# Altium footprint library DS_Lib.PcbLib: 69 footprints (part 3 of 5)
Each footprint in its own frame and in the unit in brackets; x right, y up, seen from the top. Pads: shape width x height; smd on the part's side, far side on the other; paste and mask are expansions set on the pad; w line width, h text height; cw(c..) or ccw(c..) is an arc to the next point about the centre after c.
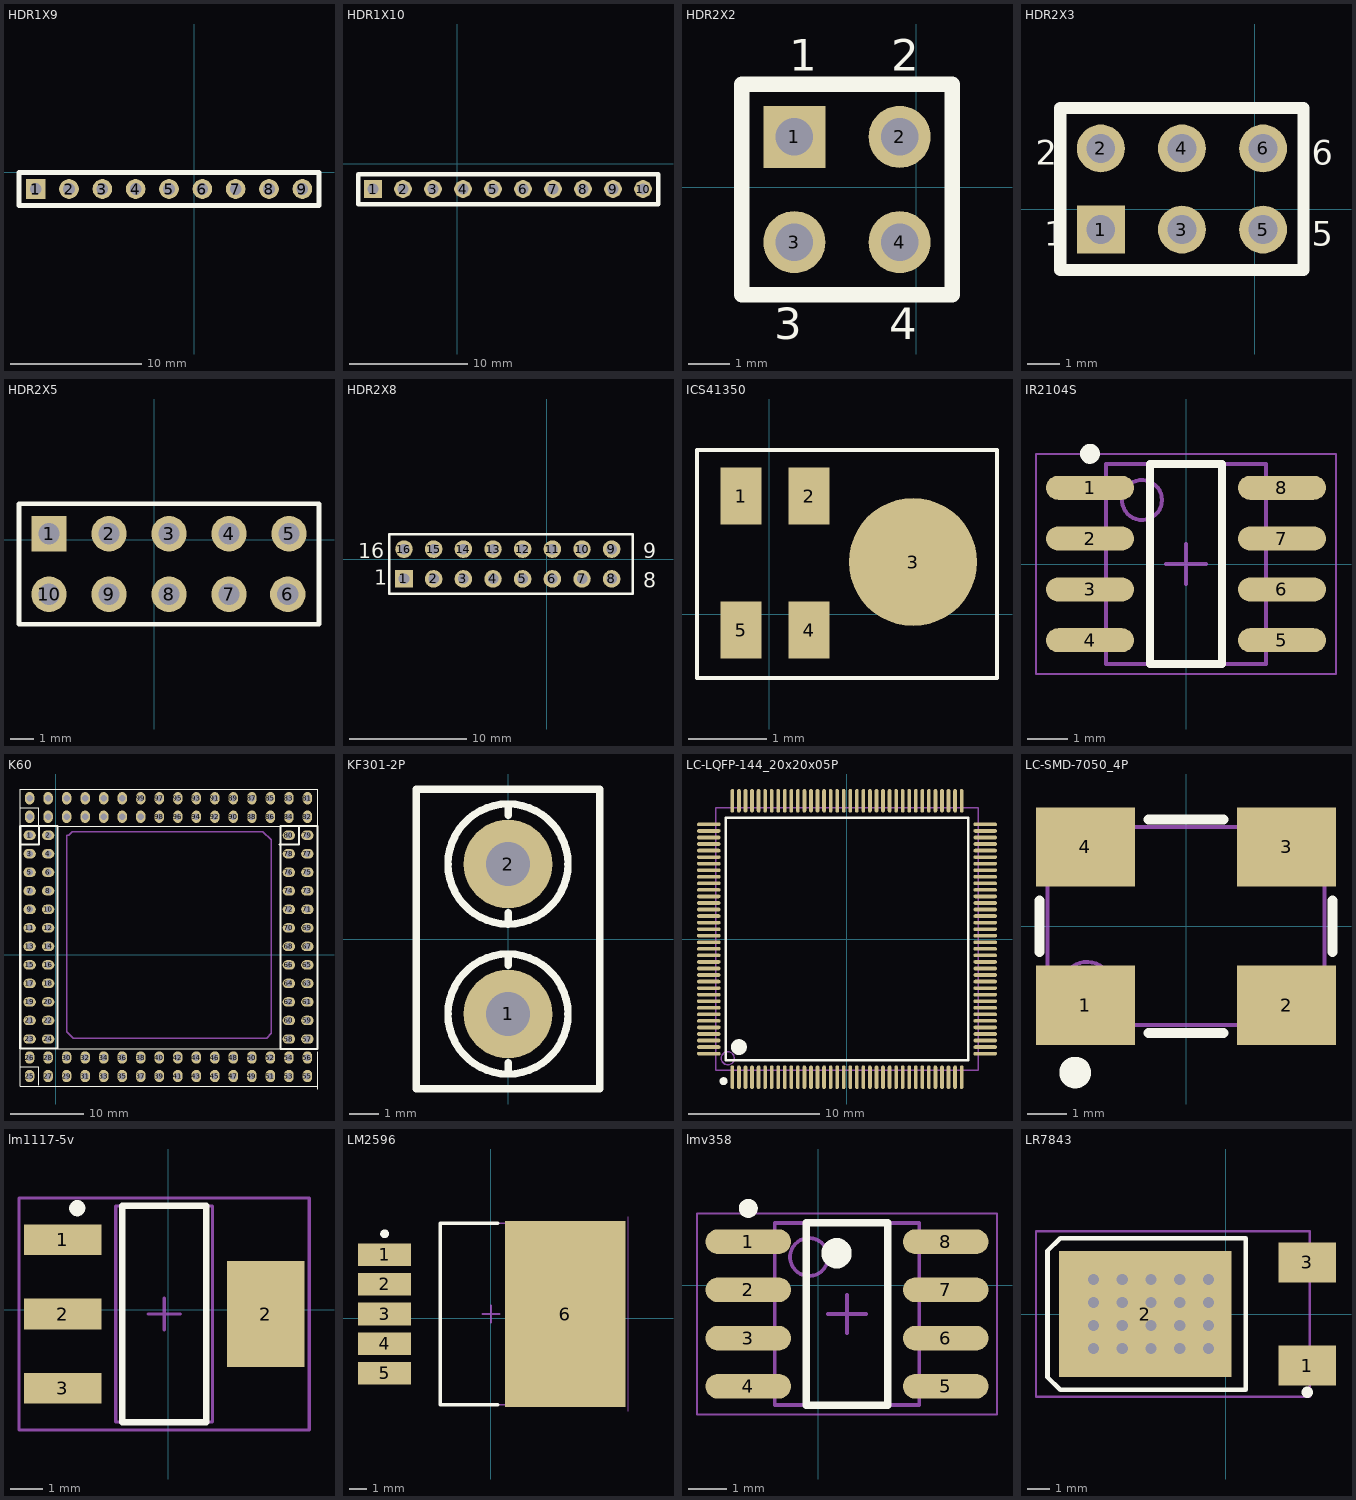
[diagram p2: the footprints below, top view; thin cyan lines are the x and y axes]

## HDR1X9 [mm]
pads (9):
  rect 1.5x1.5 hole 0.9: 1(-12.065,-1.27)
  round 1.5 hole 0.9: 2(-9.525,-1.27) 3(-6.985,-1.27) 4(-4.445,-1.27) 5(-1.905,-1.27) 6(0.635,-1.27) 7(3.175,-1.27) 8(5.715,-1.27) 9(8.255,-1.27)
Top Overlay:
  lines w0.381: -13.335,-2.54 9.525,-2.54 9.525,0 -13.335,0 -13.335,-2.54

## HDR1X10 [mm]
pads (10):
  rect 1.5x1.5 hole 0.9: 1(-7.112,-2.159)
  round 1.5 hole 0.9: 2(-4.572,-2.159) 3(-2.032,-2.159) 4(0.508,-2.159) 5(3.048,-2.159) 6(5.588,-2.159) 7(8.128,-2.159) 8(10.668,-2.159) 9(13.208,-2.159) 10(15.748,-2.159)
Top Overlay:
  lines w0.381: -8.382,-3.429 17.018,-3.429 17.018,-0.889 -6.477,-0.889 -8.382,-0.889 -8.382,-3.429

## HDR2X2 [mm]
pads (4):
  rect 1.5x1.5 hole 0.9: 1(-2.946,1.219)
  round 1.5 hole 0.9: 2(-0.406,1.219) 3(-2.946,-1.321) 4(-0.406,-1.321)
Top Overlay:
  lines w0.381: -4.216,-2.591 -1.465,-2.591 0.864,-2.591 0.864,2.489 -4.216,2.489 -4.216,-2.591
  text "1" at -3.073,2.819 h0.76
  text "2" at -0.61,2.819 h0.76
  text "3" at -3.429,-3.658 h0.76
  text "4" at -0.66,-3.658 h0.76

## HDR2X3 [mm]
pads (6):
  rect 1.5x1.5 hole 0.9: 1(-4.826,-0.635)
  round 1.5 hole 0.9: 2(-4.826,1.905) 3(-2.286,-0.635) 4(-2.286,1.905) 5(0.254,-0.635) 6(0.254,1.905)
Top Overlay:
  lines w0.381: -3.344,-1.905 1.524,-1.905 ; 1.524,-1.905 -6.096,-1.905 -6.096,3.175 1.524,3.175 1.524,-1.905
  text "1" at -6.604,-1.143 h0.76
  text "2" at -6.858,1.397 h0.76
  text "5" at 1.778,-1.143 h0.76
  text "6" at 1.778,1.397 h0.76

## HDR2X5 [mm]
pads (10):
  rect 1.5x1.5 hole 0.9: 1(-4.445,0.254)
  round 1.5 hole 0.9: 2(-1.905,0.254) 3(0.635,0.254) 4(3.175,0.254) 5(5.715,0.254) 6(5.664,-2.311) 7(3.175,-2.311) 8(0.635,-2.311) 9(-1.905,-2.311) 10(-4.445,-2.311)
Top Overlay:
  lines w0.2: -5.715,-3.581 6.985,-3.581 6.985,1.524 -5.715,1.524 -5.715,-3.581

## HDR2X8 [mm]
pads (16):
  rect 1.5x1.5 hole 0.9: 1(-12.217,-1.676)
  round 1.5 hole 0.9: 2(-9.677,-1.676) 3(-7.137,-1.676) 4(-4.597,-1.676) 5(-2.057,-1.676) 6(0.483,-1.676) 7(3.023,-1.676) 8(5.563,-1.676) 9(5.563,0.864) 10(3.023,0.864) 11(0.483,0.864) 12(-2.057,0.864) 13(-4.597,0.864) 14(-7.137,0.864) 15(-9.677,0.864) 16(-12.217,0.864)
Top Overlay:
  lines w0.2: -13.487,-2.946 -11.582,-2.946 7.366,-2.946 7.366,2.134 -11.582,2.134 -13.487,2.134 -13.487,-2.946
  text "9" at 8.255,0.102 h1.27
  text "8" at 8.255,-2.438 h1.27
  text "1" at -14.757,-2.184 h1.27
  text "16" at -16.154,0.102 h1.27

## ICS41350 [mm]
pads (5):
  rect 0.52x0.725 smd: 1(-0.356,1.499) 2(0.508,1.499) 4(0.508,-0.203) 5(-0.356,-0.203)
  round 1.625 smd: 3(1.829,0.66)
Top Overlay:
  lines w0.05: -0.914,-0.813 2.896,-0.813 2.896,2.083 -0.737,2.083 -0.914,2.083 -0.914,-0.813

## IR2104S [mm]
height 1.55
pads (8):
  oval 2.2x0.6 smd: 1(-2.4,1.905) 2(-2.4,0.635) 3(-2.4,-0.635) 4(-2.4,-1.905) 5(2.4,-1.905) 6(2.4,-0.635) 7(2.4,0.635) 8(2.4,1.905)
Top Overlay:
  circle w0.25: c-2.4,2.755 r0.125
  lines w0.2: -0.9,-2.5 0.9,-2.5 0.9,2.5 -0.9,2.5 -0.9,-2.5
Mechanical 13:
  circle w0.1: c-1.1,1.6 r0.5
  lines w0.1: -2,-2.5 2,-2.5 2,2.5 -2,2.5 -2,-2.5
Mechanical 15:
  lines w0.05: -3.75,-2.75 3.75,-2.75 3.75,2.75 -3.75,2.75 -3.75,-2.75
  lines w0.1: -0.5,0 0.5,0 ; 0,-0.5 0,0.5
3D body: height 1.55, standoff 0.22, extent -2,-2.5 2,2.5

## K60 [mm]
pads (112):
  oval 1.7x1.3 / inner round 1.524 / far side round 1.524 hole 0.9: 1(-3.556,16.383) 2(-1.016,16.383) 3(-3.556,13.843) 4(-1.016,13.843) 5(-3.556,11.303) 6(-1.016,11.303) 7(-3.556,8.763) 8(-1.016,8.763) 9(-3.556,6.223) 10(-1.016,6.223) 11(-3.556,3.683) 12(-1.016,3.683) 13(-3.556,1.143) 14(-1.016,1.143) 15(-3.556,-1.397) 16(-1.016,-1.397) 17(-3.556,-3.937) 18(-1.016,-3.937) 19(-3.556,-6.477) 20(-1.016,-6.477) 21(-3.556,-9.017) 22(-1.016,-9.017) 23(-3.556,-11.557) 24(-1.016,-11.557) 57(34.544,-11.557) 58(32.004,-11.557) 59(34.544,-9.017) 60(32.004,-9.017) 61(34.544,-6.477) 62(32.004,-6.477) 63(34.544,-3.937) 64(32.004,-3.937) 65(34.544,-1.397) 66(32.004,-1.397) 67(34.544,1.143) 68(32.004,1.143) 69(34.544,3.683) 70(32.004,3.683) 71(34.544,6.223) 72(32.004,6.223) 73(34.544,8.763) 74(32.004,8.763) 75(34.544,11.303) 76(32.004,11.303) 77(34.544,13.843) 78(32.004,13.843) 79(34.544,16.383) 80(32.004,16.383)
  oval 1.3x1.7 / inner round 1.524 / far side round 1.524 hole 0.9: 25(-3.556,-16.637) 26(-3.556,-14.097) 27(-1.016,-16.637) 28(-1.016,-14.097) 29(1.524,-16.637) 30(1.524,-14.097) 31(4.064,-16.637) 32(4.064,-14.097) 33(6.604,-16.637) 34(6.604,-14.097) 35(9.144,-16.637) 36(9.144,-14.097) 37(11.684,-16.637) 38(11.684,-14.097) 39(14.224,-16.637) 40(14.224,-14.097) 41(16.764,-16.637) 42(16.764,-14.097) 43(19.304,-16.637) 44(19.304,-14.097) 45(21.844,-16.637) 46(21.844,-14.097) 47(24.384,-16.637) 48(24.384,-14.097) 49(26.924,-16.637) 50(26.924,-14.097) 51(29.464,-16.637) 52(29.464,-14.097) 53(32.004,-16.637) 54(32.004,-14.097) 55(34.544,-16.637) 56(34.544,-14.097) 81(34.544,21.463) 82(34.544,18.923) 83(32.004,21.463) 84(32.004,18.923) 85(29.464,21.463) 86(29.464,18.923) 87(26.924,21.463) 88(26.924,18.923) 89(24.384,21.463) 90(24.384,18.923) 91(21.844,21.463) 92(21.844,18.923) 93(19.304,21.463) 94(19.304,18.923) 95(16.764,21.463) 96(16.764,18.923) 97(14.224,21.463) 98(14.224,18.923) 99(11.684,21.463) 100(11.684,18.923) 101(9.144,21.463) 102(9.144,18.923) 103(6.604,21.463) 104(6.604,18.923) 105(4.064,21.463) 106(4.064,18.923) 107(1.524,21.463) 108(1.524,18.923) 109(-1.016,21.463) 110(-1.016,18.923) 111(-3.556,21.463) 112(-3.556,18.923)
Top Overlay:
  lines w0.15: -4.868,-18.065 -4.868,-12.985 ; -4.829,-18.014 35.938,-18.014 ; -4.826,-15.367 -2.286,-15.367 -2.286,-17.907 ; -4.826,-12.923 35.941,-12.923 ; -4.826,20.193 -2.286,20.193 -2.286,17.653 ; 35.941,-13.798 35.992,-13.798 ; 35.941,-13.439 35.992,-13.439 ; 35.992,-18.415 35.992,-13.335 ; -4.826,17.653 35.941,17.653 35.992,17.653 35.992,22.733 35.941,22.733 -4.826,22.733 -4.826,17.653
  lines w0.305: -4.826,-12.858 0.254,-12.858 ; -4.826,-12.827 -4.826,17.653 0.254,17.653 0.254,-12.827 ; -4.826,15.113 -2.286,15.113 -2.286,17.653 ; 30.734,15.113 33.274,15.113 ; 30.861,-12.931 35.941,-12.931 ; 30.861,-12.827 30.861,17.653 35.941,17.653 35.941,-12.827 ; 33.401,15.113 33.401,17.653
Mechanical 15:
  lines w0.2: 1.524,16.383 1.778,16.383 ; 1.524,16.383 1.778,16.383 ; 1.524,16.383 1.524,-10.541 2.413,-11.43 28.956,-11.43 29.591,-10.795 29.591,15.748 28.448,16.891 2.286,16.891 1.778,16.383

## KF301-2P [mm]
pads (2):
  round 3 hole 1.5: 1(0,-2.54) 2(0,2.54)
Top Overlay:
  circle w0.254: c0,2.54 r2.032
  circle w0.254: c0,-2.54 r2.032
  lines w0.254: 0,-4.572 0,-4.191 ; 0,-0.889 0,-0.508 ; 0,0.508 0,0.889 ; 0,4.191 0,4.572 ; -3.1,-5.08 -3.1,5.08 3.1,5.08 3.1,-5.08 -3.1,-5.08

## LC-LQFP-144_20x20x05P [mm]
pads (144):
  oval 0.28x1.8 smd mask+0.051: 1(-8.75,-10.55) 2(-8.25,-10.55) 3(-7.75,-10.55) 4(-7.25,-10.55) 5(-6.75,-10.55) 6(-6.25,-10.55) 7(-5.75,-10.55) 8(-5.25,-10.55) 9(-4.75,-10.55) 10(-4.25,-10.55) 11(-3.75,-10.55) 12(-3.25,-10.55) 13(-2.75,-10.55) 14(-2.25,-10.55) 15(-1.75,-10.55) 16(-1.25,-10.55) 17(-0.75,-10.55) 18(-0.25,-10.55) 19(0.25,-10.55) 20(0.75,-10.55) 21(1.25,-10.55) 22(1.75,-10.55) 23(2.25,-10.55) 24(2.75,-10.55) 25(3.25,-10.55) 26(3.75,-10.55) 27(4.25,-10.55) 28(4.75,-10.55) 29(5.25,-10.55) 30(5.75,-10.55) 31(6.25,-10.55) 32(6.75,-10.55) 33(7.25,-10.55) 34(7.75,-10.55) 35(8.25,-10.55) 36(8.75,-10.55) 73(8.75,10.55) 74(8.25,10.55) 75(7.75,10.55) 76(7.25,10.55) 77(6.75,10.55) 78(6.25,10.55) 79(5.75,10.55) 80(5.25,10.55) 81(4.75,10.55) 82(4.25,10.55) 83(3.75,10.55) 84(3.25,10.55) 85(2.75,10.55) 86(2.25,10.55) 87(1.75,10.55) 88(1.25,10.55) 89(0.75,10.55) 90(0.25,10.55) 91(-0.25,10.55) 92(-0.75,10.55) 93(-1.25,10.55) 94(-1.75,10.55) 95(-2.25,10.55) 96(-2.75,10.55) 97(-3.25,10.55) 98(-3.75,10.55) 99(-4.25,10.55) 100(-4.75,10.55) 101(-5.25,10.55) 102(-5.75,10.55) 103(-6.25,10.55) 104(-6.75,10.55) 105(-7.25,10.55) 106(-7.75,10.55) 107(-8.25,10.55) 108(-8.75,10.55)
  oval 1.8x0.28 smd mask+0.051: 37(10.55,-8.75) 38(10.55,-8.25) 39(10.55,-7.75) 40(10.55,-7.25) 41(10.55,-6.75) 42(10.55,-6.25) 43(10.55,-5.75) 44(10.55,-5.25) 45(10.55,-4.75) 46(10.55,-4.25) 47(10.55,-3.75) 48(10.55,-3.25) 49(10.55,-2.75) 50(10.55,-2.25) 51(10.55,-1.75) 52(10.55,-1.25) 53(10.55,-0.75) 54(10.55,-0.25) 55(10.55,0.25) 56(10.55,0.75) 57(10.55,1.25) 58(10.55,1.75) 59(10.55,2.25) 60(10.55,2.75) 61(10.55,3.25) 62(10.55,3.75) 63(10.55,4.25) 64(10.55,4.75) 65(10.55,5.25) 66(10.55,5.75) 67(10.55,6.25) 68(10.55,6.75) 69(10.55,7.25) 70(10.55,7.75) 71(10.55,8.25) 72(10.55,8.75) 109(-10.55,8.75) 110(-10.55,8.25) 111(-10.55,7.75) 112(-10.55,7.25) 113(-10.55,6.75) 114(-10.55,6.25) 115(-10.55,5.75) 116(-10.55,5.25) 117(-10.55,4.75) 118(-10.55,4.25) 119(-10.55,3.75) 120(-10.55,3.25) 121(-10.55,2.75) 122(-10.55,2.25) 123(-10.55,1.75) 124(-10.55,1.25) 125(-10.55,0.75) 126(-10.55,0.25) 127(-10.55,-0.25) 128(-10.55,-0.75) 129(-10.55,-1.25) 130(-10.55,-1.75) 131(-10.55,-2.25) 132(-10.55,-2.75) 133(-10.55,-3.25) 134(-10.55,-3.75) 135(-10.55,-4.25) 136(-10.55,-4.75) 137(-10.55,-5.25) 138(-10.55,-5.75) 139(-10.55,-6.25) 140(-10.55,-6.75) 141(-10.55,-7.25) 142(-10.55,-7.75) 143(-10.55,-8.25) 144(-10.55,-8.75)
Top Overlay:
  circle w0.6: c-8.25,-8.25 r0.3
  circle w0.3: c-9.425,-10.85 r0.15
  lines w0.2: -9.25,-9.25 9.25,-9.25 9.25,9.25 -9.25,9.25 -9.25,-9.25
Mechanical 13:
  circle w0.1: c-9.1,-9.1 r0.5
  lines w0.1: -10,-10 10,-10 10,10 -10,10 -10,-10

## LC-SMD-7050_4P [mm]
pads (4):
  rect 2.5x2 smd: 1(-2.54,-2) 2(2.54,-2) 3(2.54,2) 4(-2.54,2)
Top Overlay:
  circle w0.4: c-2.8,-3.7 r0.2
  lines w0.254: -3.7,-0.65 -3.7,0.65 ; -0.95,-2.7 0.95,-2.7 ; -0.95,2.7 0.95,2.7 ; 3.7,-0.65 3.7,0.65
Mechanical 13:
  circle w0.1: c-2.5,-1.5 r0.6
  lines w0.1: -3.5,-2.5 -3.5,2.5 3.5,2.5 3.5,-2.5 -3.5,-2.5

## lm1117-5v [mm]
pads (4):
  rect 2.4x0.95 smd: 1(-3.277,2.173) 2(-3.277,-0.127) 3(-3.277,-2.427)
  rect 2.4x3.3 smd: 2(3.023,-0.127)
Top Overlay:
  circle w0.25: c-2.822,3.153 r0.125
  lines w0.2: -1.427,-3.477 -1.427,3.223 1.173,3.223 1.173,-3.477 -1.427,-3.477
Mechanical 13:
  lines w0.1: -1.627,-3.477 -1.627,3.223 1.373,3.223 1.373,-3.477 -1.627,-3.477
Mechanical 15:
  lines w0.1: -0.627,-0.127 0.373,-0.127 ; -0.127,-0.627 -0.127,0.373 ; -4.627,-3.727 -4.627,3.473 4.373,3.473 4.373,-3.727 -4.627,-3.727
3D body: height 1.8, standoff 0.02, extent -1.627,-3.477 1.373,3.223

## LM2596 [mm]
pads (6):
  rect 3.05x1.3 smd: 1(-6.1,3.654) 2(-6.1,1.954) 3(-6.1,0.254) 4(-6.1,-1.446) 5(-6.1,-3.146)
  rect 6.9x10.65 smd: 6(4.25,0.254)
Top Overlay:
  circle w0.25: c-6.1,4.854 r0.125
  lines w0.2: 0.4,-4.946 -2.9,-4.946 -2.9,5.454 0.4,5.454
Mechanical 13:
  lines w0.1: -2.9,-4.946 5.99,-4.946 5.99,5.454 -2.9,5.454 -2.9,-4.946
Mechanical 15:
  lines w0.05: 7.875,-5.321 7.875,5.829
  lines w0.1: -0.5,0.254 0.5,0.254 ; 0,-0.246 0,0.754

## lmv358 [mm]
pads (8):
  oval 2.25x0.65 smd: 1(-1.838,1.143) 2(-1.838,-0.127) 3(-1.838,-1.397) 4(-1.838,-2.667) 5(3.362,-2.667) 6(3.362,-1.397) 7(3.362,-0.127) 8(3.362,1.143)
Top Overlay:
  circle w0.25: c-1.838,2.018 r0.125
  circle w0.4: c0.487,0.838 r0.2
  lines w0.2: -0.313,-3.162 -0.313,1.638 1.837,1.638 1.837,-3.162 -0.313,-3.162
Mechanical 13:
  circle w0.1: c-0.238,0.738 r0.5
  lines w0.1: -1.138,-3.162 -1.138,1.638 2.662,1.638 2.662,-3.162 -1.138,-3.162
Mechanical 15:
  lines w0.05: -3.188,-3.412 -3.188,1.888 4.712,1.888 4.712,-3.412 -3.188,-3.412
  lines w0.1: 0.262,-0.762 1.262,-0.762 ; 0.762,-1.262 0.762,-0.262
3D body: height 1.62, standoff 0.18, extent -1.138,-3.162 2.662,1.638

## LR7843 [mm]
pads (3):
  rect 2.54x1.778 smd: 1(3.6,-2.28) 3(3.6,2.28)
  rect 7.6x5.55 smd: 2(-3.556,0)
via -5.842,1.524 diameter 0.8 hole 0.5
via -5.842,0.508 diameter 0.8 hole 0.5
via -5.842,-0.508 diameter 0.8 hole 0.5
via -4.572,1.524 diameter 0.8 hole 0.5
via -4.572,0.508 diameter 0.8 hole 0.5
via -4.572,-0.508 diameter 0.8 hole 0.5
via -4.572,-1.524 diameter 0.8 hole 0.5
via -3.302,1.524 diameter 0.8 hole 0.5
via -3.302,0.508 diameter 0.8 hole 0.5
via -3.302,-0.508 diameter 0.8 hole 0.5
via -2.032,1.524 diameter 0.8 hole 0.5
via -2.032,0.508 diameter 0.8 hole 0.5
via -2.032,-1.524 diameter 0.8 hole 0.5
via -2.032,-0.508 diameter 0.8 hole 0.5
via -3.302,-1.524 diameter 0.8 hole 0.5
via -5.842,-1.524 diameter 0.8 hole 0.5
via -0.762,0.508 diameter 0.8 hole 0.5
via -0.762,1.524 diameter 0.8 hole 0.5
via -0.762,-0.508 diameter 0.8 hole 0.5
via -0.762,-1.524 diameter 0.8 hole 0.5
Top Overlay:
  circle w0.25: c3.6,-3.455 r0.125
  lines w0.2: -7.874,-2.794 -7.318,-3.35 0.889,-3.35 0.889,3.35 -7.318,3.35 -7.874,2.794 -7.874,-2.794
Mechanical 15:
  lines w0.1: -1.85,0 -0.85,0 ; -1.35,-0.5 -1.35,0.5 ; -8.382,-3.65 3.705,-3.65 3.705,3.65 -8.382,3.65 -8.382,-3.65